# EAGLE library part CD4047BE (library CD4047BE)
CMOS Low Power Monostable/Astable Multivibrator
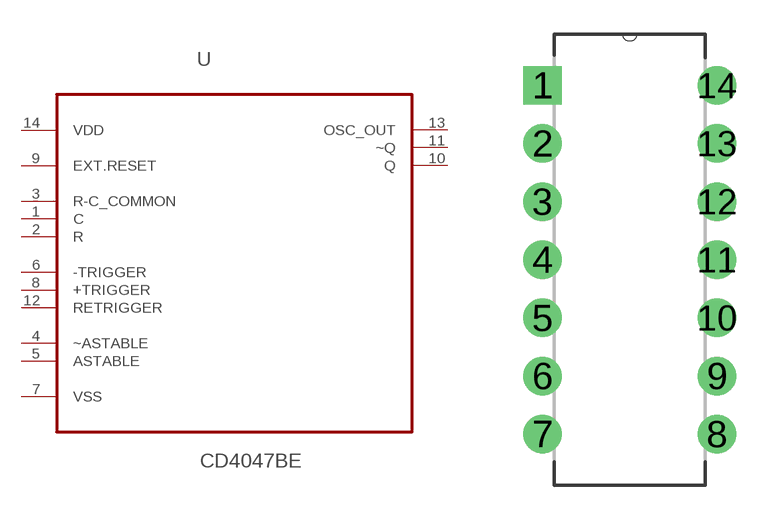
[diagram p0: symbol with the pads of DIP254P762X508-14; footprint DIP254P762X508-14]

Designator prefix U

## CD4047BE (Availability: Unavailable; Description: CMOS Low-Power Monostable/Astable Multivibrator 14-PDIP -55 to 125; MF: Texas Instruments; MP: CD4047BE; Package: DIP-14 Texas Instruments; Price: None)  [DIP254P762X508-14]
1  C  in
2  R  in
3  R-C_COMMON  in
4  ~ASTABLE  in
5  ASTABLE  in
6  -TRIGGER  pwr
7  VSS  pwr
8  +TRIGGER  in
9  EXT.RESET  in
10  Q  out
11  ~Q  out
12  RETRIGGER  in
13  OSC_OUT  out
14  VDD  pwr

## Footprint DIP254P762X508-14 (pad centres in mm)
drill 1.118 square: 1 -7.62,15.24
drill 1.118: 2 -7.62,12.7; 3 -7.62,10.16; 4 -7.62,7.62; 5 -7.62,5.08; 6 -7.62,2.54; 7 -7.62,0; 8 0,0; 9 0,2.54; 10 0,5.08; 11 0,7.62; 12 0,10.16; 13 0,12.7; 14 0,15.24